# Altium schematic symbol library StrainGaugeLib.SchLib: 2 symbols
Pins are listed as number, name and electrical type; pins without a type are passive.

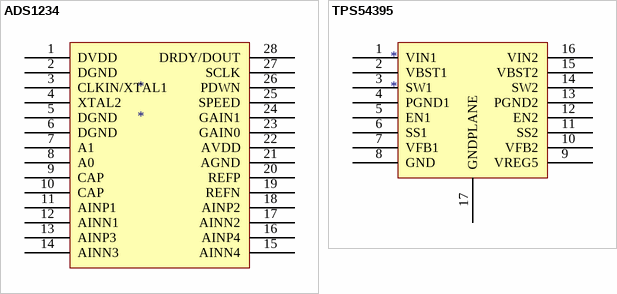
[diagram p0: symbols ADS1234 to TPS54395]

## ADS1234
designator *
footprint ADS1234 (TSOP, 28-Leads, Body 9.70x4.40mm, Pitch 0.65mm, IPC Medium Density)
pins: 1 DVDD, 2 DGND, 3 CLKIN/XTAL1, 4 XTAL2, 5 DGND, 6 DGND, 7 A1, 8 A0, 9 CAP, 10 CAP, 11 AINP1, 12 AINN1, 13 AINP3, 14 AINN3, 15 AINN4, 16 AINP4, 17 AINN2, 18 AINP2, 19 REFN, 20 REFP, 21 AGND, 22 AVDD, 23 GAIN0, 24 GAIN1, 25 SPEED, 26 PDWN, 27 SCLK, 28 DRDY/DOUT

## TPS54395
designator *
Dual Channel Buck Converter
pins: 1 VIN1, 2 VBST1, 3 SW1, 4 PGND1, 5 EN1, 6 SS1, 7 VFB1, 8 GND, 9 VREG5, 10 VFB2, 11 SS2, 12 EN2, 13 PGND2, 14 SW2, 15 VBST2, 16 VIN2, 17 GNDPLANE